# Altium schematic symbol library CAPACITOR POL.Schlib: 1 symbol
Pins are listed as number, name and electrical type; pins without a type are passive.

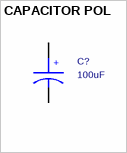
[diagram p0: symbol CAPACITOR POL]

## CAPACITOR POL
designator C?, comment 100uF
pins: 1, 2
text: +